# Altium schematic symbol library Schlib1.SchLib: 1 symbol
Pins are listed as number, name and electrical type; pins without a type are passive.

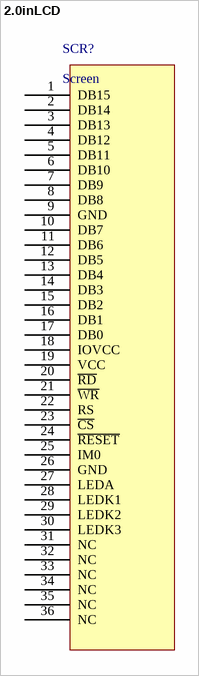
[diagram p0: symbol 2.0inLCD]

## 2.0inLCD
designator SCR?, comment Screen
pins: 1 DB15, 2 DB14, 3 DB13, 4 DB12, 5 DB11, 6 DB10, 7 DB9, 8 DB8, 9 GND, 10 DB7, 11 DB6, 12 DB5, 13 DB4, 14 DB3, 15 DB2, 16 DB1, 17 DB0, 18 IOVCC, 19 VCC, 20 ~{RD}, 21 ~{WR}, 22 RS, 23 ~{CS}, 24 ~{RESET}, 25 IM0, 26 GND, 27 LEDA, 28 LEDK1, 29 LEDK2, 30 LEDK3, 31 NC, 32 NC, 33 NC, 34 NC, 35 NC, 36 NC